# EAGLE library part LP38692SD-3.3/NOPB (library LDO)
IC REG LINEAR 3.3V 1A 6WSON Manufacturer's datasheet <http://www.ti.com/lit/ds/symlink/lp38690.pdf?HQS=TI-null-null-digikeymode-df-pf-null-wwe&ts=1591614187347&ref_url=http://www.ti.com/general/docs/suppproductinfo.tsp?distId%3D10&gotoUrl=http://www.ti.com/lit/gpn/lp38690>
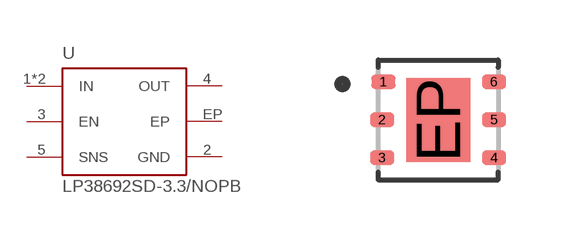
[diagram p3: symbol with the pads of 6-WSON-E; footprint 6-WSON-E]

Designator prefix U

## LP38692SD-3.3/NOPB (CREATED_BY: PCBLayout.com; DIGIKEY_PARTNO: LP38692SD-3.3/NOPBCT-ND; MANUFACTURER: Texas Instruments; MPN: LP38692SD-3.3/NOPB; PACKAGE: 6-WSON)  [6-WSON-E]
1  IN  in
2  GND  pwr
3  EN  in
4  OUT  out
5  SNS  in
6  IN  in
EP  EP  pwr

## Footprint 6-WSON-E (pad centres in mm)
Small Outline No-Lead (SON with Tab), 0.95 mm pitch; 6 pin, 3.00 mm L X 3.00 mm W X 0.80 mm H body PCB Libraries Packages
smd 0.6 x 0.35: 1 -1.37,0.95; 2 -1.4,0; 3 -1.4,-0.95; 4 1.4,-0.95; 5 1.4,0; 6 1.4,0.95
smd 1.6 x 2.1: EP 0,0